# Altium schematic symbol library TSW-118-07-G-D.SchLib: 1 symbol
Pins are listed as number, name and electrical type; pins without a type are passive.

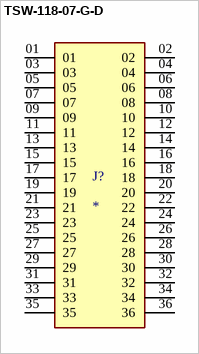
[diagram p0: symbol TSW-118-07-G-D]

## TSW-118-07-G-D
designator J?
MF: Samtec Inc.; MP: TSW-118-07-G-D; Availability: Unavailable; Price: None; Value: *; Package: None
footprint SAMTEC_TSW-118-07-G-D
pins: 01, 02, 03, 04, 05, 06, 07, 08, 09, 10, 11, 12, 13, 14, 15, 16, 17, 18, 19, 20, 21, 22, 23, 24, 25, 26, 27, 28, 29, 30, 31, 32, 33, 34, 35, 36